# EAGLE library part 7S- (library Chips)
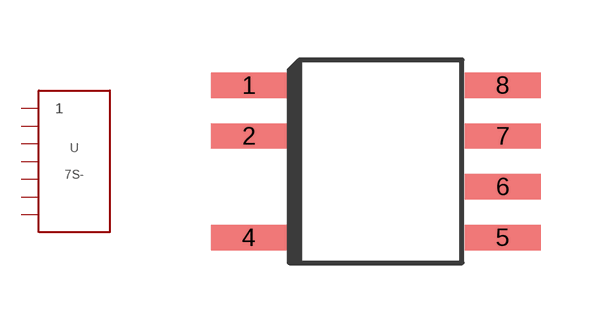
[diagram p18: symbol with the pads of 8SOP-4.4MM_7; footprint 8SOP-4.4MM_7]

Designator prefix U

## 7S-8SOP-4.4MM_7  [8SOP-4.4MM_7]
1  1
2  2
4  3
5  4
6  5
7  6
8  7

## Footprint 8SOP-4.4MM_7 (pad centres in mm)
smd 1.905 x 0.635: 1 -3.175,1.905; 2 -3.175,0.635; 4 -3.175,-1.905; 5 3.175,-1.905; 6 3.175,-0.635; 7 3.175,0.635; 8 3.175,1.905